# Altium footprint library MP2338GTLZ.PcbLib: 1 footprints
Each footprint in its own frame and in the unit in brackets; x right, y up, seen from the top. Pads: shape width x height; smd on the part's side, far side on the other; paste and mask are expansions set on the pad; w line width, h text height; cw(c..) or ccw(c..) is an arc to the next point about the centre after c.
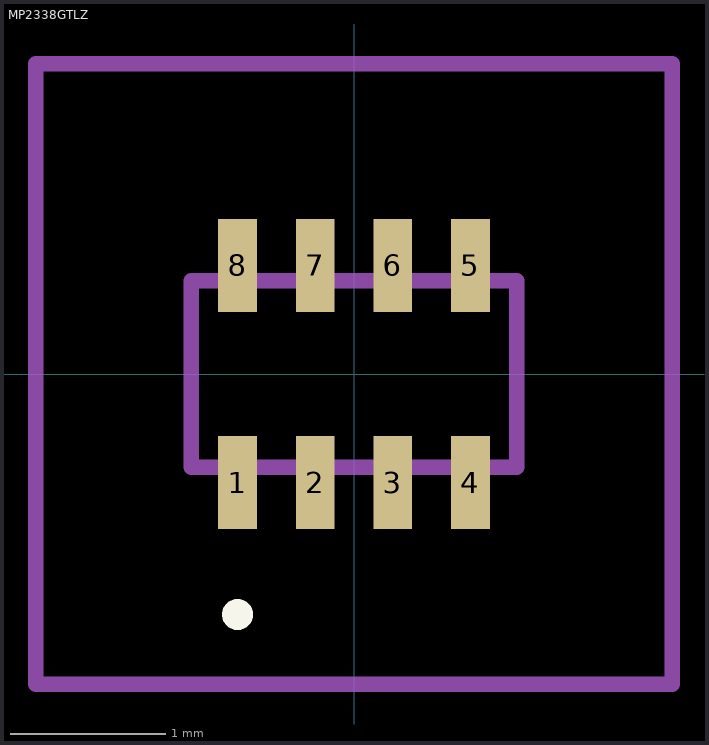
[diagram p0: the footprint, top view; thin cyan lines are the x and y axes]

## MP2338GTLZ [mm]
pads (8):
  rect 0.25x0.6 smd: 1(-0.75,-0.7) 2(-0.25,-0.7) 3(0.25,-0.7) 4(0.75,-0.7) 5(0.75,0.7) 6(0.25,0.7) 7(-0.25,0.7) 8(-0.75,0.7)
Top Overlay:
  lines w0.1: -0.75,-1.6 -0.75,-1.6 ; -0.75,-1.6 ccw(c-0.75,-1.55) -0.75,-1.5 ; -0.75,-1.6 cw(c-0.75,-1.55) -0.75,-1.5 ; -0.75,-1.5 -0.75,-1.5
Mechanical 15:
  lines w0.1: -1.05,-0.6 1.05,-0.6 1.05,0.6 -1.05,0.6 -1.05,-0.6
Mechanical 20:
  lines w0.1: -2.05,-2 2.05,-2 2.05,2 -2.05,2 -2.05,-2